# Altium schematic symbol library JS202011SCQN DPDT Slide Switch.SchLib: 1 symbol
Pins are listed as number, name and electrical type; pins without a type are passive.

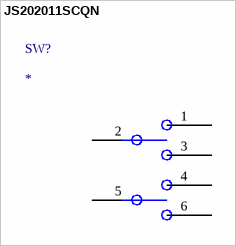
[diagram p0: symbol JS202011SCQN]

## JS202011SCQN
designator SW?
footprint JS202011SCQN DPDT Slide Switch
pins: 1, 2, 3, 4, 5, 6